# Altium footprint library Adams Altium Library.PcbLib: 250 footprints (part 6 of 16)
Each footprint in its own frame and in the unit in brackets; x right, y up, seen from the top. Pads: shape width x height; smd on the part's side, far side on the other; paste and mask are expansions set on the pad; w line width, h text height; cw(c..) or ccw(c..) is an arc to the next point about the centre after c.
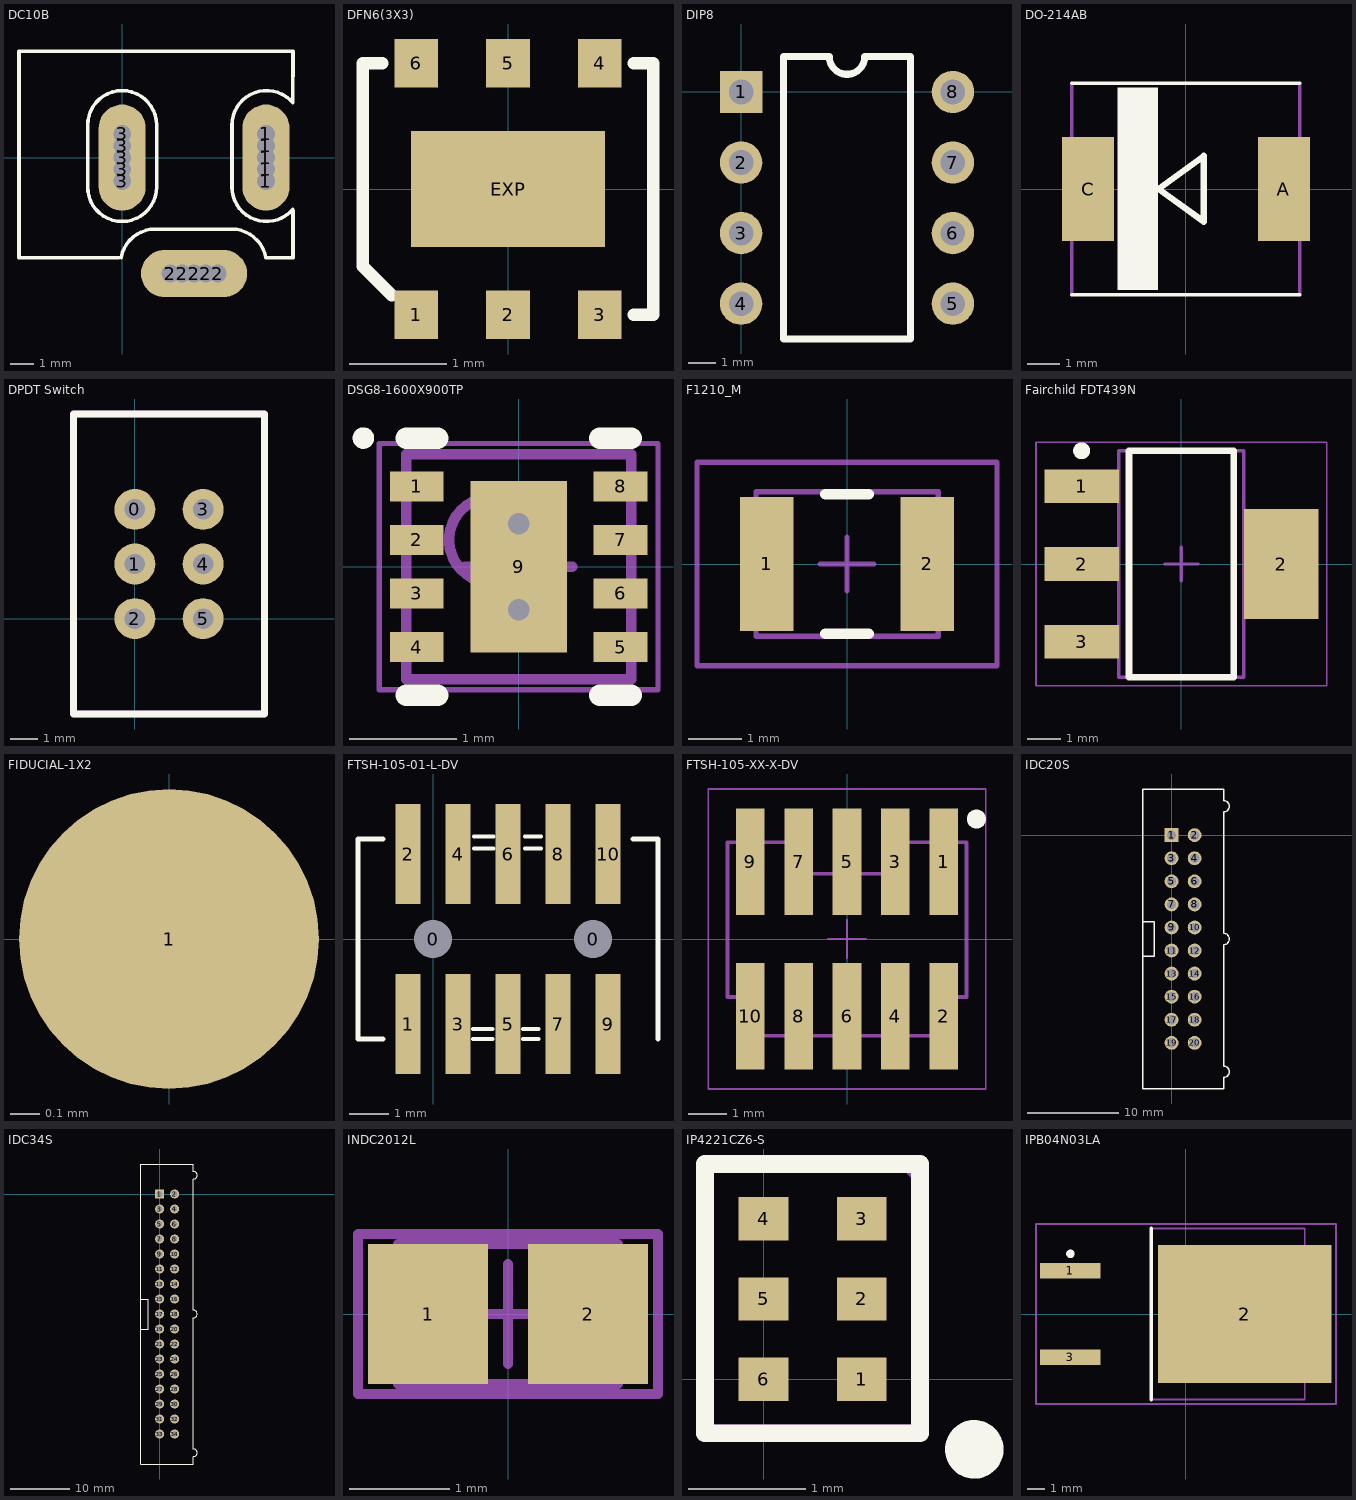
[diagram p5: the footprints below, top view; thin cyan lines are the x and y axes]

## DC10B [mil]
pads (15):
  round 45 hole 30: 1(244.09,-40) 1(244.09,-20) 1(244.09,20) 1(244.09,40) 2(82.05,-196.85) 2(102.05,-196.85) 2(142.05,-196.85) 2(162.05,-196.85) 3(0,-40) 3(0,-20) 3(0,20) 3(0,40)
  oval 80x180 hole 30: 1(244.09,0) 3(0,0)
  oval 180x80 hole 30: 2(122.05,-196.85)
Top Overlay:
  lines w6: -6,-170 -175,-170 -175,180 290,180 289.83,92.62 ccw(c245,55) 186.48,55 186.48,-50 ccw(c245,-50) 289.83,-87.62 ; -1.63,-169.84 cw(c56,-180) 56,-121.48 186,-121.48 cw(c186,-180) 243.63,-169.84 ; 245,-170 290,-170 290,-90 ; -58.52,55 cw(c0,55) 58.52,55 ; -58.52,55 -58.52,-50 ccw(c0,-50) 58.52,-50 58.52,55 ; -58.52,55 -58.52,55 ; 58.52,55 58.52,55

## DFN6(3X3) [mm]
pads (7):
  rect 0.45x0.5 smd: 1(-0.95,-1.3) 2(0,-1.3) 3(0.95,-1.3) 4(0.95,1.3) 5(0,1.3) 6(-0.95,1.3)
  rect 2x1.2 smd: EXP(0,0)
Top Overlay:
  lines w0.127: -1.3,1.3 -1.5,1.3 -1.5,-0.8 -1.2,-1.1 ; 1.3,-1.3 1.5,-1.3 1.5,1.3 1.3,1.3

## DIP8 [mil]
pads (8):
  rect 60x60 hole 35: 1(0,0)
  round 60 hole 35: 2(0,-100) 3(0,-200) 4(0,-300) 5(300,-300) 6(300,-200) 7(300,-100) 8(300,0)
Top Overlay:
  lines w10: 60,-350 240,-350 240,50 175,50 cw(c150,50) 125,50 60,50 60,-350

## DO-214AB [mil]
pads (2):
  rect 63x126 smd: A(119,0) C(-118.11,0)
Top Overlay:
  rectangle: -82.68,-122.05 -33.46,123
  lines w4: -137.8,-127.95 138,-127.95 ; -137.8,128 138,128
  lines w8: -32.68,0 22,40 22,-39.37 -32.68,0
Mechanical 16:
  rectangle: -136.18,-43 -115.18,43
  rectangle: 116,-43 137,43
  lines w4: -137.8,-127.95 -137.8,128 ; 138,-127.95 138,128
3D body: height 98.43, standoff 0, extent -139.8,-129.95 140,130

## DPDT Switch [mm] "MMS22R"
pads (6):
  round 1.5 hole 0.75: 0(0,4) 1(0,2) 2(0,0) 3(2.5,4) 4(2.5,2) 5(2.5,0)
Top Overlay:
  lines w0.254: -2.25,-3.5 4.75,-3.5 4.75,1.944 4.75,7.163 4.75,7.5 -2.25,7.5 -2.25,2 -2.25,-3.5
Mechanical 13:
  lines w0.254: -2.25,-3.5 -2.25,2 -2.25,7.5 4.75,7.5 4.75,7.163 4.75,1.944 4.75,-3.5 -2.25,-3.5

## DSG8-1600X900TP [mm] "SON, 8-Leads, Body 2x2mm, Pitch 0.5mm, Thermal Pad 1.6x0.9mm, TI Recommended"
height 0.8
pads (9):
  rect 0.5x0.28 smd paste-0.14 mask+0.07: 1(-0.95,0.75) 2(-0.95,0.25) 3(-0.95,-0.25) 4(-0.95,-0.75) 5(0.95,-0.75) 6(0.95,-0.25) 7(0.95,0.25) 8(0.95,0.75)
  rect 0.9x1.6 smd paste-0.45 mask+0.07: 9(0,0)
via 0,-0.4 diameter 0.5 hole 0.2
via 0,0.4 diameter 0.5 hole 0.2
Top Overlay:
  circle w0.1: c-1.45,1.2 r0.05
  lines w0.2: -1.05,-1.2 -0.755,-1.2 ; -1.05,1.2 -0.755,1.2 ; 0.755,-1.2 1.05,-1.2 ; 0.755,1.2 1.05,1.2
Top Paste:
  rectangle: 0.7,0.625 1.2,0.875
  rectangle: 0.7,0.125 1.2,0.375
  rectangle: 0.7,-0.375 1.2,-0.125
  rectangle: 0.7,-0.875 1.2,-0.625
  rectangle: -1.2,-0.875 -0.7,-0.625
  rectangle: -1.2,-0.375 -0.7,-0.125
  rectangle: -1.2,0.625 -0.7,0.875
  rectangle: -0.35,-0.65 0.35,0.65
  rectangle: -1.2,0.125 -0.7,0.375
Mechanical 13:
  circle w0.1: c-0.25,0.25 r0.4
  lines w0.1: -1.05,-1.05 -1.05,1.05 1.05,1.05 1.05,-1.05 -1.05,-1.05
Mechanical 15:
  lines w0.05: -1.3,-1.15 -1.3,1.15 1.3,1.15 1.3,-1.15 -1.3,-1.15
  lines w0.1: -0.5,0 0.5,0 ; 0,-0.5 0,0.5
3D body: height 0.8, standoff 0, extent -1.05,-1.05 1.05,1.05

## F1210_M [mm] "Bournes PTC Fuse"
height 1.5
pads (2):
  rect 1x2.5 smd: 1(-1.5,0) 2(1.5,0)
Top Overlay:
  lines w0.2: -0.4,-1.3 0.4,-1.3 ; -0.4,1.3 0.4,1.3
Mechanical 13:
  lines w0.1: -1.7,-1.35 -1.7,1.35 1.7,1.35 1.7,-1.35 -1.7,-1.35
Mechanical 15:
  lines w0.1: -0.5,0 0.5,0 ; 0,-0.5 0,0.5 ; -2.8,-1.9 -2.8,1.9 2.8,1.9 2.8,-1.9 -2.8,-1.9
3D body: height 0.85, standoff 0, extent -1.7,-1.35 1.7,1.4

## Fairchild FDT439N [mm] "SOT223, 4-Leads, Body 6.60x7.08mm (avg), Pitch 2.30mm, IPC Medium Density"
height 1.6
pads (4):
  rect 2.2x1 smd: 1(-2.95,2.3) 2(-2.95,0) 3(-2.95,-2.3)
  rect 2.2x3.25 smd: 2(2.95,0)
Top Overlay:
  circle w0.25: c-2.95,3.35 r0.125
  lines w0.2: -1.55,-3.35 1.55,-3.35 1.55,3.35 -1.55,3.35 -1.55,-3.35
Mechanical 13:
  lines w0.1: -1.85,-3.35 1.85,-3.35 1.85,3.35 -1.85,3.35 -1.85,-3.35
Mechanical 15:
  lines w0.05: -4.3,-3.6 4.3,-3.6 4.3,3.6 -4.3,3.6 -4.3,-3.6
  lines w0.1: -0.5,0 0.5,0 ; 0,-0.5 0,0.5
3D body: height 1.6, standoff 0.06, extent -1.85,-3.35 1.85,3.35

## FIDUCIAL-1X2 [mil]
pads (1):
  rrect100% 40x40 smd paste-3897.64 mask+20: 1(0,0)
3D body: height 0.79, standoff 0, extent -19.84,-19.96 20.01,19.97
3D body: height 0.39, standoff 0, extent -39.68,-39.91 40.01,39.93

## FTSH-105-01-L-DV [mil]
pads (12):
  round 25 hole 38 unplated: 0(0,0) 0(160,0)
  rect 25x100 smd: 1(-25,-85) 2(-25,85) 3(25,-85) 4(25,85) 5(75,-85) 6(75,85) 7(125,-85) 8(125,85) 9(175,-85) 10(175,85)
Top Overlay:
  lines w4: 40,-100 59.69,-100 ; 40,-90 59.69,-90 ; 40.94,90.55 60.63,90.55 ; 40.94,102.36 60.63,102.36 ; 90,-100 105.75,-100 ; 90,-90 105.75,-90 ; 92.13,90.55 107.87,90.55 ; 92.13,102.36 107.87,102.36
  lines w5: -50,-100 -75,-100 -75,100 -50,100 ; 200,100 225,100 225,-100

## FTSH-105-XX-X-DV [mm] "1.27mm pitch, 10 pin, terminal strip; vertical, SMT"
height 5.97
pads (10):
  rect 0.75x2.8 smd mask+0: 1(2.54,2.03) 2(2.54,-2.03) 3(1.27,2.03) 4(1.27,-2.03) 5(0,2.03) 6(0,-2.03) 7(-1.27,2.03) 8(-1.27,-2.03) 9(-2.54,2.03) 10(-2.54,-2.03)
Top Overlay:
  circle w0.25: c3.4,3.15 r0.125
Mechanical 12:
  lines w0.001: -3.137,-1.524 -3.137,2.54 -1.079,2.54 -1.079,1.714 1.079,1.714 1.079,2.54 3.137,2.54 3.137,-1.524 2.54,-1.524 2.54,-2.54 -2.54,-2.54 -2.54,-1.524 -3.137,-1.524
Mechanical 13:
  lines w0.1: -3.137,-1.524 -3.137,2.54 -1.079,2.54 -1.079,1.714 1.079,1.714 1.079,2.54 3.137,2.54 3.137,-1.524 2.54,-1.524 2.54,-2.54 -2.54,-2.54 -2.54,-1.524 -3.137,-1.524
Mechanical 15:
  lines w0.05: -0.5,0 0.5,0 ; 0,-0.5 0,0.5 ; -3.645,-3.937 3.645,-3.937 3.645,3.937 -3.645,3.937 -3.645,-3.937

## IDC20S [mil]
pads (20):
  rect 60x60 hole 40: 1(0,0)
  round 60 hole 40: 2(100,0) 3(0,-100) 4(100,-100) 5(0,-200) 6(100,-200) 7(0,-300) 8(100,-300) 9(0,-400) 10(100,-400) 11(0,-500) 12(100,-500) 13(0,-600) 14(100,-600) 15(0,-700) 16(100,-700) 17(0,-800) 18(100,-800) 19(0,-900) 20(100,-900)
Top Overlay:
  lines w6: -125,-525 -75,-525 -75,-375 -125,-375 ; -125,-1100 -125,200 225,200 225,150 cw(c225,125) 225,100 225,-425 cw(c225,-450) 225,-475 225,-1000 cw(c225,-1025) 225,-1050 225,-1100 -125,-1100

## IDC34S [mil]
pads (34):
  rect 60x60 hole 40: 1(0,0)
  round 60 hole 40: 2(100,0) 3(0,-100) 4(100,-100) 5(0,-200) 6(100,-200) 7(0,-300) 8(100,-300) 9(0,-400) 10(100,-400) 11(0,-500) 12(100,-500) 13(0,-600) 14(100,-600) 15(0,-700) 16(100,-700) 17(0,-800) 18(100,-800) 19(0,-900) 20(100,-900) 21(0,-1000) 22(100,-1000) 23(0,-1100) 24(100,-1100) 25(0,-1200) 26(100,-1200) 27(0,-1300) 28(100,-1300) 29(0,-1400) 30(100,-1400) 31(0,-1500) 32(100,-1500) 33(0,-1600) 34(100,-1600)
Top Overlay:
  lines w5: -125,-900 -75,-900 -75,-700 -125,-700
  lines w6: -125,-1800 225,-1800 225,-1750 ccw(c225,-1725) 225,-1700 225,-825 ccw(c225,-800) 225,-775 225,100 ccw(c225,125) 225,150 225,200 -125,200 -125,-700 -125,-900 -125,-1800

## INDC2012L [mm] "Chip Inductor, Body 2.0x1.2mm, IPC High Density"
height 0.55
pads (2):
  rect 1.2x1.4 smd: 1(-0.8,0) 2(0.8,0)
Mechanical 13:
  lines w0.1: -1.1,-0.7 1.1,-0.7 1.1,0.7 -1.1,0.7 -1.1,-0.7
Mechanical 15:
  lines w0.1: -0.5,0 0.5,0 ; 0,-0.5 0,0.5 ; -1.5,-0.8 1.5,-0.8 1.5,0.8 -1.5,0.8 -1.5,-0.8
3D body: height 0.55, standoff 0, extent -1.1,-0.7 1.1,0.7

## IP4221CZ6-S [mm] "ESD Protection IC"
height 0.5
pads (6):
  rect 0.425x0.37 smd: 1(0.837,0) 2(0.837,0.685) 3(0.837,1.37) 4(0,1.37) 5(0,0.685) 6(0,0)
Top Overlay:
  circle w0.25: c1.8,-0.6 r0.125
  lines w0.152: -0.5,-0.463 -0.5,1.837 1.337,1.837 1.337,-0.463 -0.5,-0.463
Mechanical 13:
  lines w0.152: 1.249,1.837 1.337,1.75 ; -0.5,-0.463 1.337,-0.463 1.337,1.837 -0.5,1.837 -0.5,-0.463

## IPB04N03LA [mm] "Power-Transistor"
height 2.56
pads (3):
  rect 3.55x0.9 smd: 1(-6.8,2.54) 3(-6.8,-2.54)
  rect 10.2x8.1 smd: 2(3.45,0)
Top Overlay:
  circle w0.25: c-6.8,3.54 r0.125
  lines w0.2: -2.05,-5.05 -2.05,5.05
Mechanical 13:
  lines w0.1: -2,-5.025 6.98,-5.025 6.98,5.025 -2,5.025 -2,-5.025
Mechanical 15:
  lines w0.1: -0.5,0 0.5,0 ; 0,-0.5 0,0.5 ; -8.825,-5.3 8.825,-5.3 8.825,5.3 -8.825,5.3 -8.825,-5.3
3D body: height 2.56, standoff 0.47, extent -2,-5.025 6.98,5.025